# Altium schematic symbol library JST.SchLib: 1 symbol
Pins are listed as number, name and electrical type; pins without a type are passive.

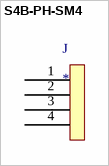
[diagram p0: symbol S4B-PH-SM4]

## S4B-PH-SM4
designator J
footprint S4B-PH-SM4
pins: 1, 2, 3, 4